# Altium footprint library HYT-1205.PcbLib: 1 footprints
Each footprint in its own frame and in the unit in brackets; x right, y up, seen from the top. Pads: shape width x height; smd on the part's side, far side on the other; paste and mask are expansions set on the pad; w line width, h text height; cw(c..) or ccw(c..) is an arc to the next point about the centre after c.
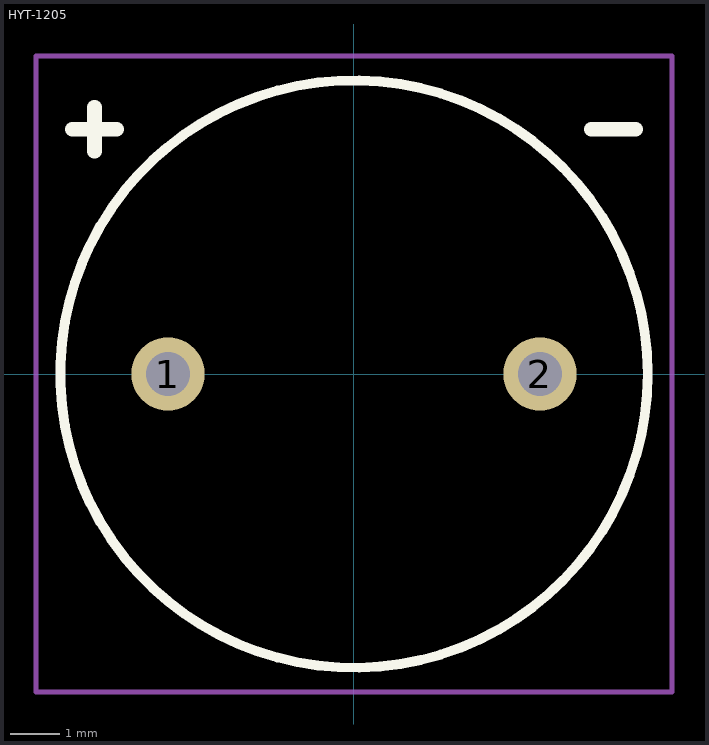
[diagram p0: the footprint, top view; thin cyan lines are the x and y axes]

## HYT-1205 [mm]
pads (2):
  round 1.5 hole 0.9: 1(-3.8,0) 2(3.8,0)
Top Overlay:
  circle w0.2: c0,0 r6
  lines w0.3: -5.75,5 -4.85,5 ; -5.3,4.55 -5.3,5.45 ; 4.85,5 5.75,5
Top Courtyard:
  lines w0.1: 5.985,6.501 6.5,6.501 ; 6.5,6.004 6.5,6.501 ; 6.5,6.501 -6.5,6.501 -6.5,-6.5 6.5,-6.5 6.5,6.501
3D body "AI-1223-TWT-5V-R--3DModel-STEP-1.STEP": height 9.65, standoff -5.9, extent -7.44,-5.999 6,5.998